# Altium schematic symbol library level shifter 4C.SchLib: 1 symbol
Pins are listed as number, name and electrical type; pins without a type are passive.

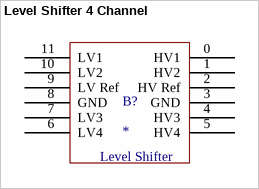
[diagram p0: symbol Level Shifter 4 Channel]

## Level Shifter 4 Channel
designator B?
footprint level shifter 4C (Footprint not found)
pins: 0 HV1, 1 HV2, 2 HV Ref, 3 GND, 4 HV3, 5 HV4, 6 LV4, 7 LV3, 8 GND, 9 LV Ref, 10 LV2, 11 LV1
text: Level Shifter